# EAGLE library part 613025143121 (library Board-to-Board (rev18a))
WR-PHD 2.54mm Angled Socket Header, 25 Pins =>Code : Con_BTB_SHD_2.54_1_THT_613025143121 <http://katalog.we-online.de/media/images/eican/Con_BTB_SHD_2.54_1_THT_6130xx143121_pf2.jpg> Details see: http://katalog.we-online.de/en/em/613_0xx_143_121 Created 2014-05-29, Karrer Zheng 2014 (C) Würth Elektronik
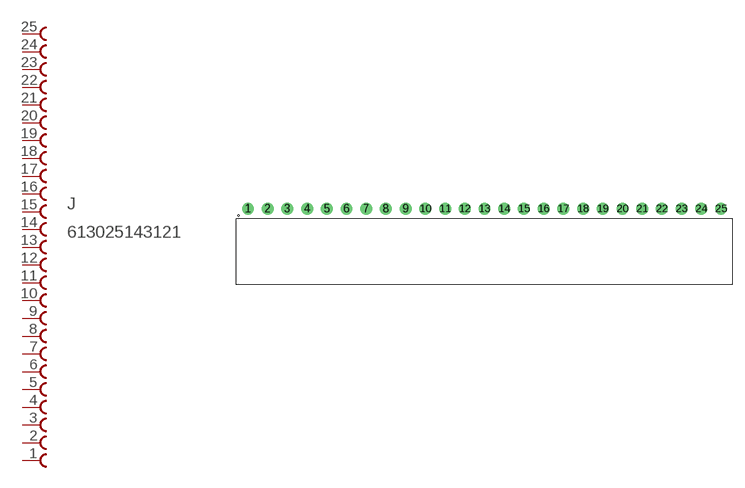
[diagram p141: symbol with the pads of 613025143121; footprint 613025143121]

Designator prefix J

## 613025143121  [613025143121]
1  25  pas
2  24  pas
3  23  pas
4  22  pas
5  21  pas
6  20  pas
7  19  pas
8  18  pas
9  17  pas
10  16  pas
11  15  pas
12  14  pas
13  13  pas
14  12  pas
15  11  pas
16  10  pas
17  9  pas
18  8  pas
19  7  pas
20  6  pas
21  5  pas
22  4  pas
23  3  pas
24  2  pas
25  1  pas

## Footprint 613025143121 (pad centres in mm)
WR-PHD 2.54mm Angled Socket Header, 25 Pins
drill 1.02: 1 -30.48,0; 2 -27.94,0; 3 -25.4,0; 4 -22.86,0; 5 -20.32,0; 6 -17.78,0; 7 -15.24,0; 8 -12.7,0; 9 -10.16,0; 10 -7.62,0; 11 -5.08,0; 12 -2.54,0; 13 0,0; 14 2.54,0; 15 5.08,0; 16 7.62,0; 17 10.16,0; 18 12.7,0; 19 15.24,0; 20 17.78,0; 21 20.32,0; 22 22.86,0; 23 25.4,0; 24 27.94,0; 25 30.48,0